# Altium footprint library PcbLib_regulator 5v.PcbLib: 1 footprints
Each footprint in its own frame and in the unit in brackets; x right, y up, seen from the top. Pads: shape width x height; smd on the part's side, far side on the other; paste and mask are expansions set on the pad; w line width, h text height; cw(c..) or ccw(c..) is an arc to the next point about the centre after c.
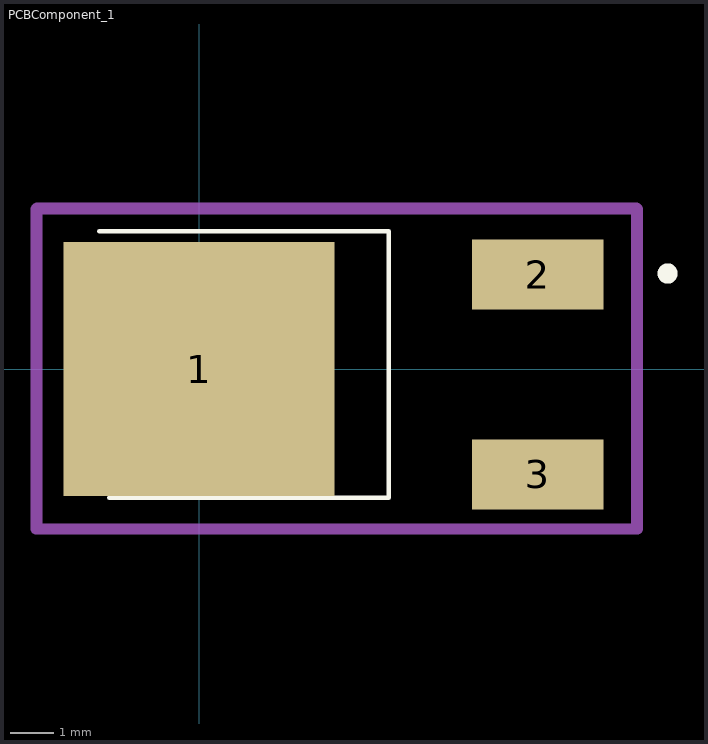
[diagram p0: the footprint, top view; thin cyan lines are the x and y axes]

## PCBComponent_1 [mm]
pads (3):
  rect 6.2x5.8 smd: 1(0,0)
  rect 3x1.6 smd: 2(7.747,2.159) 3(7.747,-2.411)
Top Overlay:
  circle w0.254: c10.719,2.184 r0.105
  lines w0.1: -2.286,3.15 4.343,3.15 4.343,-2.946 4.293,-2.946 -2.057,-2.946
Mechanical15:
  lines w0.254: -3.734,-3.658 10.033,-3.658 10.033,3.658 -3.734,3.658 -3.734,-3.658
Mechanical29:
  lines w0.254: -3.708,-3.658 10.008,-3.658 10.008,3.683 -3.708,3.683 -3.708,-3.658
3D body "MC78M05ACDTRKG.STEP": height 2.59, standoff 0.07, extent -1.854,-3.301 8.052,3.199